# Altium schematic symbol library WE-CBA.SchLib: 88 symbols (part 2 of 2)
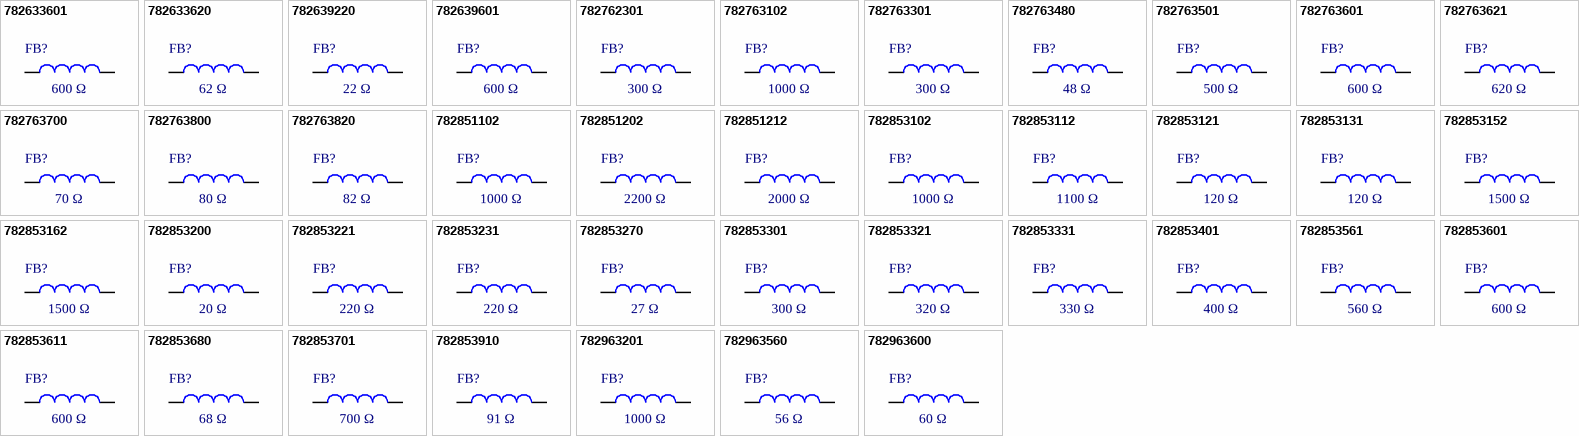
[diagram p3: symbols 782633601 to 782963600]

## 782853102
designator FB?, comment 1000 Ω
WE-CBA SMT EMI Suppression Ferrite Bead, size 0805, 1000 Ω, 1 A; Manufacturer Part Number: 782853102; Manufacturer: Wurth Elektronik; Case/Size Code: 0805; DC Resistance: 300 mΩ; Rated Current: 1 A; Type: High Current; Category: Ferrites for PCB Assembly; Match Code: WE-CBA; ComponentLink1Description: Website Link; ComponentLink1URL: https://www.we-online.com/redexpert/article/782853102?ad; ComponentLink2Description: Datasheet Link; ComponentLink2URL: https://www.we-online.com/redexpert/spec/782853102?ad; Mount: Surface Mount; Min Operating Temperature: -55 °C; Max Operating Temperature: 125 °C; Packaging: Tape and Reel; Length: 2 mm; Width: 1.2 mm; Height: 0.9 mm; Impedance @100MHz: 1000 Ω; Impedance Max: 1000 Ω
footprint WE-CBA_0805_L2W1.2H0.9_HC
simulation model 0805_782853102_1000ohm
pins: 1, 2

## 782853112
designator FB?, comment 1100 Ω
WE-CBA SMT EMI Suppression Ferrite Bead, size 0805, 1100 Ω, 800 mA; Manufacturer Part Number: 782853112; Manufacturer: Wurth Elektronik; Case/Size Code: 0805; DC Resistance: 300 mΩ; Impedance Max: 1400 Ω; Rated Current: 800 mA; Type: High Current; Category: Ferrites for PCB Assembly; Match Code: WE-CBA; ComponentLink1Description: Website Link; ComponentLink1URL: https://www.we-online.com/redexpert/article/782853112?ad; ComponentLink2Description: Datasheet Link; ComponentLink2URL: https://www.we-online.com/redexpert/spec/782853112?ad; Mount: Surface Mount; Min Operating Temperature: -55 °C; Max Operating Temperature: 125 °C; Packaging: Tape and Reel; Length: 2 mm; Width: 1.2 mm; Height: 0.9 mm; Impedance @100MHz: 1100 Ω
footprint WE-CBA_0805_L2W1.2H0.9_HC
simulation model 0805_782853112_1100ohm
pins: 1, 2

## 782853121
designator FB?, comment 120 Ω
WE-CBA SMT EMI Suppression Ferrite Bead, size 0805, 120 Ω, 2.5 A; Manufacturer Part Number: 782853121; Manufacturer: Wurth Elektronik; Case/Size Code: 0805; DC Resistance: 35 mΩ; Impedance Max: 180 Ω; Rated Current: 2.5 A; Type: High Current; Category: Ferrites for PCB Assembly; Match Code: WE-CBA; ComponentLink1Description: Website Link; ComponentLink1URL: https://www.we-online.com/redexpert/article/782853121?ad; ComponentLink2Description: Datasheet Link; ComponentLink2URL: https://www.we-online.com/redexpert/spec/782853121?ad; Mount: Surface Mount; Min Operating Temperature: -55 °C; Max Operating Temperature: 125 °C; Packaging: Tape and Reel; Length: 2 mm; Width: 1.2 mm; Height: 0.9 mm; Impedance @100MHz: 120 Ω
footprint WE-CBA_0805_L2W1.2H0.9_HC
simulation model 0805_782853121_120ohm
pins: 1, 2

## 782853131
designator FB?, comment 120 Ω
WE-CBA SMT EMI Suppression Ferrite Bead, size 0805, 120 Ω, 3 A; Manufacturer Part Number: 782853131; Manufacturer: Wurth Elektronik; Case/Size Code: 0805; DC Resistance: 30 mΩ; Impedance Max: 180 Ω; Rated Current: 3 A; Type: High Current; Category: Ferrites for PCB Assembly; Match Code: WE-CBA; ComponentLink1Description: Website Link; ComponentLink1URL: https://www.we-online.com/redexpert/article/782853131?ad; ComponentLink2Description: Datasheet Link; ComponentLink2URL: https://www.we-online.com/redexpert/spec/782853131?ad; Mount: Surface Mount; Min Operating Temperature: -55 °C; Max Operating Temperature: 125 °C; Packaging: Tape and Reel; Length: 2 mm; Width: 1.2 mm; Height: 0.9 mm; Impedance @100MHz: 120 Ω
footprint WE-CBA_0805_L2W1.2H0.9_HC
simulation model 0805_782853131_120ohm
pins: 1, 2

## 782853152
designator FB?, comment 1500 Ω
WE-CBA SMT EMI Suppression Ferrite Bead, size 0805, 1500 Ω, 700 mA; Manufacturer Part Number: 782853152; Manufacturer: Wurth Elektronik; Case/Size Code: 0805; DC Resistance: 350 mΩ; Impedance Max: 1800 Ω; Rated Current: 700 mA; Type: High Current; Category: Ferrites for PCB Assembly; Match Code: WE-CBA; ComponentLink1Description: Website Link; ComponentLink1URL: https://www.we-online.com/redexpert/article/782853152?ad; ComponentLink2Description: Datasheet Link; ComponentLink2URL: https://www.we-online.com/redexpert/spec/782853152?ad; Mount: Surface Mount; Min Operating Temperature: -55 °C; Max Operating Temperature: 125 °C; Packaging: Tape and Reel; Length: 2 mm; Width: 1.2 mm; Height: 0.9 mm; Impedance @100MHz: 1500 Ω
footprint WE-CBA_0805_L2W1.2H0.9_HC
simulation model 0805_782853152_1500ohm
pins: 1, 2

## 782853162
designator FB?, comment 1500 Ω
WE-CBA SMT EMI Suppression Ferrite Bead, size 0805, 1500 Ω, 1 A; Manufacturer Part Number: 782853162; Manufacturer: Wurth Elektronik; Case/Size Code: 0805; DC Resistance: 300 mΩ; Impedance Max: 1800 Ω; Rated Current: 1 A; Type: High Current; Category: Ferrites for PCB Assembly; Match Code: WE-CBA; ComponentLink1Description: Website Link; ComponentLink1URL: https://www.we-online.com/redexpert/article/782853162?ad; ComponentLink2Description: Datasheet Link; ComponentLink2URL: https://www.we-online.com/redexpert/spec/782853162?ad; Mount: Surface Mount; Min Operating Temperature: -55 °C; Max Operating Temperature: 125 °C; Packaging: Tape and Reel; Length: 2 mm; Width: 1.2 mm; Height: 0.9 mm; Impedance @100MHz: 1500 Ω
footprint WE-CBA_0805_L2W1.2H0.9_HC
simulation model 0805_782853162_1500ohm
pins: 1, 2

## 782853200
designator FB?, comment 20 Ω
WE-CBA SMT EMI Suppression Ferrite Bead, size 0805, 20 Ω, 5 A; Manufacturer Part Number: 782853200; Manufacturer: Wurth Elektronik; Case/Size Code: 0805; DC Resistance: 8 mΩ; Impedance Max: 35 Ω; Rated Current: 5 A; Type: High Current; Category: Ferrites for PCB Assembly; Match Code: WE-CBA; ComponentLink1Description: Website Link; ComponentLink1URL: https://www.we-online.com/redexpert/article/782853200?ad; ComponentLink2Description: Datasheet Link; ComponentLink2URL: https://www.we-online.com/redexpert/spec/782853200?ad; Mount: Surface Mount; Min Operating Temperature: -55 °C; Max Operating Temperature: 125 °C; Packaging: Tape and Reel; Length: 2 mm; Width: 1.2 mm; Height: 0.9 mm; Impedance @100MHz: 20 Ω
footprint WE-CBA_0805_L2W1.2H0.9_HC
simulation model 0805_782853200_20ohm
pins: 1, 2

## 782853221
designator FB?, comment 220 Ω
WE-CBA SMT EMI Suppression Ferrite Bead, size 0805, 220 Ω, 2 A; Manufacturer Part Number: 782853221; Manufacturer: Wurth Elektronik; Case/Size Code: 0805; DC Resistance: 50 mΩ; Impedance Max: 290 Ω; Rated Current: 2 A; Type: High Current; Category: Ferrites for PCB Assembly; Match Code: WE-CBA; ComponentLink1Description: Website Link; ComponentLink1URL: https://www.we-online.com/redexpert/article/782853221?ad; ComponentLink2Description: Datasheet Link; ComponentLink2URL: https://www.we-online.com/redexpert/spec/782853221?ad; Mount: Surface Mount; Min Operating Temperature: -55 °C; Max Operating Temperature: 125 °C; Packaging: Tape and Reel; Length: 2 mm; Width: 1.2 mm; Height: 0.9 mm; Impedance @100MHz: 220 Ω
footprint WE-CBA_0805_L2W1.2H0.9_HC
simulation model 0805_782853221_220ohm
pins: 1, 2

## 782853231
designator FB?, comment 220 Ω
WE-CBA SMT EMI Suppression Ferrite Bead, size 0805, 220 Ω, 3 A; Manufacturer Part Number: 782853231; Manufacturer: Wurth Elektronik; Case/Size Code: 0805; DC Resistance: 50 mΩ; Impedance Max: 330 Ω; Rated Current: 3 A; Type: High Current; Category: Ferrites for PCB Assembly; Match Code: WE-CBA; ComponentLink1Description: Website Link; ComponentLink1URL: https://www.we-online.com/redexpert/article/782853231?ad; ComponentLink2Description: Datasheet Link; ComponentLink2URL: https://www.we-online.com/redexpert/spec/782853231?ad; Mount: Surface Mount; Min Operating Temperature: -55 °C; Max Operating Temperature: 125 °C; Packaging: Tape and Reel; Length: 2 mm; Width: 1.2 mm; Height: 0.9 mm; Impedance @100MHz: 220 Ω
footprint WE-CBA_0805_L2W1.2H0.9_HC
simulation model 0805_782853231_220ohm
pins: 1, 2

## 782853270
designator FB?, comment 27 Ω
WE-CBA SMT EMI Suppression Ferrite Bead, size 0805, 27 Ω, 4 A; Manufacturer Part Number: 782853270; Manufacturer: Wurth Elektronik; Case/Size Code: 0805; DC Resistance: 15 mΩ; Impedance Max: 45 Ω; Rated Current: 4 A; Type: High Current; Category: Ferrites for PCB Assembly; Match Code: WE-CBA; ComponentLink1Description: Website Link; ComponentLink1URL: https://www.we-online.com/redexpert/article/782853270?ad; ComponentLink2Description: Datasheet Link; ComponentLink2URL: https://www.we-online.com/redexpert/spec/782853270?ad; Mount: Surface Mount; Min Operating Temperature: -55 °C; Max Operating Temperature: 125 °C; Packaging: Tape and Reel; Length: 2 mm; Width: 1.2 mm; Height: 0.9 mm; Impedance @100MHz: 27 Ω
footprint WE-CBA_0805_L2W1.2H0.9_HC
simulation model 0805_782853270_27ohm
pins: 1, 2

## 782853301
designator FB?, comment 300 Ω
WE-CBA SMT EMI Suppression Ferrite Bead, size 0805, 300 Ω, 3 A; Manufacturer Part Number: 782853301; Manufacturer: Wurth Elektronik; Case/Size Code: 0805; DC Resistance: 50 mΩ; Impedance Max: 350 Ω; Rated Current: 3 A; Type: High Current; Category: Ferrites for PCB Assembly; Match Code: WE-CBA; ComponentLink1Description: Website Link; ComponentLink1URL: https://www.we-online.com/redexpert/article/782853301?ad; ComponentLink2Description: Datasheet Link; ComponentLink2URL: https://www.we-online.com/redexpert/spec/782853301?ad; Mount: Surface Mount; Min Operating Temperature: -55 °C; Max Operating Temperature: 125 °C; Packaging: Tape and Reel; Length: 2 mm; Width: 1.2 mm; Height: 0.9 mm; Impedance @100MHz: 300 Ω
footprint WE-CBA_0805_L2W1.2H0.9_HC
simulation model 0805_782853301_300ohm
pins: 1, 2

## 782853321
designator FB?, comment 320 Ω
WE-CBA SMT EMI Suppression Ferrite Bead, size 0805, 320 Ω, 2 A; Manufacturer Part Number: 782853321; Manufacturer: Wurth Elektronik; Case/Size Code: 0805; DC Resistance: 50 mΩ; Impedance Max: 370 Ω; Rated Current: 2 A; Type: High Current; Category: Ferrites for PCB Assembly; Match Code: WE-CBA; ComponentLink1Description: Website Link; ComponentLink1URL: https://www.we-online.com/redexpert/article/782853321?ad; ComponentLink2Description: Datasheet Link; ComponentLink2URL: https://www.we-online.com/redexpert/spec/782853321?ad; Mount: Surface Mount; Min Operating Temperature: -55 °C; Max Operating Temperature: 125 °C; Packaging: Tape and Reel; Length: 2 mm; Width: 1.2 mm; Height: 0.9 mm; Impedance @100MHz: 320 Ω
footprint WE-CBA_0805_L2W1.2H0.9_HC
simulation model 0805_782853321_320ohm
pins: 1, 2

## 782853331
designator FB?, comment 330 Ω
WE-CBA SMT EMI Suppression Ferrite Bead, size 0805, 330 Ω, 3 A; Manufacturer Part Number: 782853331; Manufacturer: Wurth Elektronik; Case/Size Code: 0805; DC Resistance: 50 mΩ; Impedance Max: 375 Ω; Rated Current: 3 A; Type: High Current; Category: Ferrites for PCB Assembly; Match Code: WE-CBA; ComponentLink1Description: Website Link; ComponentLink1URL: https://www.we-online.com/redexpert/article/782853331?ad; ComponentLink2Description: Datasheet Link; ComponentLink2URL: https://www.we-online.com/redexpert/spec/782853331?ad; Mount: Surface Mount; Min Operating Temperature: -55 °C; Max Operating Temperature: 125 °C; Packaging: Tape and Reel; Length: 2 mm; Width: 1.2 mm; Height: 0.9 mm; Impedance @100MHz: 330 Ω
footprint WE-CBA_0805_L2W1.2H0.9_HC
simulation model 0805_782853331_330ohm
pins: 1, 2

## 782853401
designator FB?, comment 400 Ω
WE-CBA SMT EMI Suppression Ferrite Bead, size 0805, 400 Ω, 300 mA; Manufacturer Part Number: 782853401; Manufacturer: Wurth Elektronik; Case/Size Code: 0805; DC Resistance: 300 mΩ; Impedance Max: 500 Ω; Rated Current: 300 mA; Type: Wide Band; Category: Ferrites for PCB Assembly; Match Code: WE-CBA; ComponentLink1Description: Website Link; ComponentLink1URL: https://www.we-online.com/redexpert/article/782853401?ad; ComponentLink2Description: Datasheet Link; ComponentLink2URL: https://www.we-online.com/redexpert/spec/782853401?ad; Mount: Surface Mount; Min Operating Temperature: -55 °C; Max Operating Temperature: 125 °C; Packaging: Tape and Reel; Length: 2 mm; Width: 1.2 mm; Height: 0.9 mm; Impedance @100MHz: 400 Ω
footprint WE-CBA_0805_L2W1.2H0.9_HF_HS_WB
simulation model 0805_782853401_400ohm
pins: 1, 2

## 782853561
designator FB?, comment 560 Ω
WE-CBA SMT EMI Suppression Ferrite Bead, size 0805, 560 Ω, 1.5 A; Manufacturer Part Number: 782853561; Manufacturer: Wurth Elektronik; Case/Size Code: 0805; DC Resistance: 100 mΩ; Impedance Max: 600 Ω; Rated Current: 1.5 A; Type: High Current; Category: Ferrites for PCB Assembly; Match Code: WE-CBA; ComponentLink1Description: Website Link; ComponentLink1URL: https://www.we-online.com/redexpert/article/782853561?ad; ComponentLink2Description: Datasheet Link; ComponentLink2URL: https://www.we-online.com/redexpert/spec/782853561?ad; Mount: Surface Mount; Min Operating Temperature: -55 °C; Max Operating Temperature: 125 °C; Packaging: Tape and Reel; Length: 2 mm; Width: 1.2 mm; Height: 0.9 mm; Impedance @100MHz: 560 Ω
footprint WE-CBA_0805_L2W1.2H0.9_HC
simulation model 0805_782853561_560ohm
pins: 1, 2

## 782853601
designator FB?, comment 600 Ω
WE-CBA SMT EMI Suppression Ferrite Bead, size 0805, 600 Ω, 500 mA; Manufacturer Part Number: 782853601; Manufacturer: Wurth Elektronik; Case/Size Code: 0805; DC Resistance: 300 mΩ; Impedance Max: 700 Ω; Rated Current: 500 mA; Type: Wide Band; Category: Ferrites for PCB Assembly; Match Code: WE-CBA; ComponentLink1Description: Website Link; ComponentLink1URL: https://www.we-online.com/redexpert/article/782853601?ad; ComponentLink2Description: Datasheet Link; ComponentLink2URL: https://www.we-online.com/redexpert/spec/782853601?ad; Mount: Surface Mount; Min Operating Temperature: -55 °C; Max Operating Temperature: 125 °C; Packaging: Tape and Reel; Length: 2 mm; Width: 1.2 mm; Height: 0.9 mm; Impedance @100MHz: 600 Ω
footprint WE-CBA_0805_L2W1.2H0.9_HF_HS_WB
simulation model 0805_782853601_600ohm
pins: 1, 2

## 782853611
designator FB?, comment 600 Ω
WE-CBA SMT EMI Suppression Ferrite Bead, size 0805, 600 Ω, 2 A; Manufacturer Part Number: 782853611; Manufacturer: Wurth Elektronik; Case/Size Code: 0805; DC Resistance: 110 mΩ; Impedance Max: 700 Ω; Rated Current: 2 A; Type: High Current; Category: Ferrites for PCB Assembly; Match Code: WE-CBA; ComponentLink1Description: Website Link; ComponentLink1URL: https://www.we-online.com/redexpert/article/782853611?ad; ComponentLink2Description: Datasheet Link; ComponentLink2URL: https://www.we-online.com/redexpert/spec/782853611?ad; Mount: Surface Mount; Min Operating Temperature: -55 °C; Max Operating Temperature: 125 °C; Packaging: Tape and Reel; Length: 2 mm; Width: 1.2 mm; Height: 0.9 mm; Impedance @100MHz: 600 Ω
footprint WE-CBA_0805_L2W1.2H0.9_HC
simulation model 0805_782853611_600ohm
pins: 1, 2

## 782853680
designator FB?, comment 68 Ω
WE-CBA SMT EMI Suppression Ferrite Bead, size 0805, 68 Ω, 3 A; Manufacturer Part Number: 782853680; Manufacturer: Wurth Elektronik; Case/Size Code: 0805; DC Resistance: 25 mΩ; Impedance Max: 110 Ω; Rated Current: 3 A; Type: High Current; Category: Ferrites for PCB Assembly; Match Code: WE-CBA; ComponentLink1Description: Website Link; ComponentLink1URL: https://www.we-online.com/redexpert/article/782853680?ad; ComponentLink2Description: Datasheet Link; ComponentLink2URL: https://www.we-online.com/redexpert/spec/782853680?ad; Mount: Surface Mount; Min Operating Temperature: -55 °C; Max Operating Temperature: 125 °C; Packaging: Tape and Reel; Length: 2 mm; Width: 1.2 mm; Height: 0.9 mm; Impedance @100MHz: 68 Ω
footprint WE-CBA_0805_L2W1.2H0.9_HC
simulation model 0805_782853680_68ohm
pins: 1, 2

## 782853701
designator FB?, comment 700 Ω
WE-CBA SMT EMI Suppression Ferrite Bead, size 0805, 700 Ω, 1.5 A; Manufacturer Part Number: 782853701; Manufacturer: Wurth Elektronik; Case/Size Code: 0805; DC Resistance: 100 mΩ; Impedance Max: 730 Ω; Rated Current: 1.5 A; Type: High Current; Category: Ferrites for PCB Assembly; Match Code: WE-CBA; ComponentLink1Description: Website Link; ComponentLink1URL: https://www.we-online.com/redexpert/article/782853701?ad; ComponentLink2Description: Datasheet Link; ComponentLink2URL: https://www.we-online.com/redexpert/spec/782853701?ad; Mount: Surface Mount; Min Operating Temperature: -55 °C; Max Operating Temperature: 125 °C; Packaging: Tape and Reel; Length: 2 mm; Width: 1.2 mm; Height: 0.9 mm; Impedance @100MHz: 700 Ω
footprint WE-CBA_0805_L2W1.2H0.9_HC
simulation model 0805_782853701_700ohm
pins: 1, 2

## 782853910
designator FB?, comment 91 Ω
WE-CBA SMT EMI Suppression Ferrite Bead, size 0805, 91 Ω, 2 A; Manufacturer Part Number: 782853910; Manufacturer: Wurth Elektronik; Case/Size Code: 0805; DC Resistance: 60 mΩ; Impedance Max: 105 Ω; Rated Current: 2 A; Type: High Current; Category: Ferrites for PCB Assembly; Match Code: WE-CBA; ComponentLink1Description: Website Link; ComponentLink1URL: https://www.we-online.com/redexpert/article/782853910?ad; ComponentLink2Description: Datasheet Link; ComponentLink2URL: https://www.we-online.com/redexpert/spec/782853910?ad; Mount: Surface Mount; Min Operating Temperature: -55 °C; Max Operating Temperature: 125 °C; Packaging: Tape and Reel; Length: 2 mm; Width: 1.2 mm; Height: 0.9 mm; Impedance @100MHz: 91 Ω
footprint WE-CBA_0805_L2W1.2H0.9_HC
simulation model 0805_782853910_91ohm
pins: 1, 2

## 782963201
designator FB?, comment 1000 Ω
WE-CBA SMT EMI Suppression Ferrite Bead, size 1806, 1000 Ω, 1.5 A; Manufacturer Part Number: 782963201; Manufacturer: Wurth Elektronik; Case/Size Code: 1806; DC Resistance: 90 mΩ; Impedance Max: 1020 Ω; Rated Current: 1.5 A; Type: High Current; Category: Ferrites for PCB Assembly; Match Code: WE-CBA; ComponentLink1Description: Website Link; ComponentLink1URL: https://www.we-online.com/redexpert/article/782963201?ad; ComponentLink2Description: Datasheet Link; ComponentLink2URL: https://www.we-online.com/redexpert/spec/782963201?ad; Mount: Surface Mount; Min Operating Temperature: -55 °C; Max Operating Temperature: 125 °C; Packaging: Tape and Reel; Length: 4.5 mm; Width: 1.6 mm; Height: 1.6 mm; Impedance @100MHz: 1000 Ω
footprint WE-CBA_1806_L4.5W1.6H1.6_HC
simulation model 1806_782963201_1000ohm
pins: 1, 2

## 782963560
designator FB?, comment 56 Ω
WE-CBA SMT EMI Suppression Ferrite Bead, size 1806, 56 Ω, 5 A; Manufacturer Part Number: 782963560; Manufacturer: Wurth Elektronik; Case/Size Code: 1806; DC Resistance: 8 mΩ; Impedance Max: 90 Ω; Rated Current: 5 A; Type: High Current; Category: Ferrites for PCB Assembly; Match Code: WE-CBA; ComponentLink1Description: Website Link; ComponentLink1URL: https://www.we-online.com/redexpert/article/782963560?ad; ComponentLink2Description: Datasheet Link; ComponentLink2URL: https://www.we-online.com/redexpert/spec/782963560?ad; Mount: Surface Mount; Min Operating Temperature: -55 °C; Max Operating Temperature: 125 °C; Packaging: Tape and Reel; Length: 4.5 mm; Width: 1.6 mm; Height: 1.6 mm; Impedance @100MHz: 56 Ω
footprint WE-CBA_1806_L4.5W1.6H1.6_HC
simulation model 1806_782963560_56ohm
pins: 1, 2

## 782963600
designator FB?, comment 60 Ω
WE-CBA SMT EMI Suppression Ferrite Bead, size 1806, 60 Ω, 6 A; Manufacturer Part Number: 782963600; Manufacturer: Wurth Elektronik; Case/Size Code: 1806; DC Resistance: 10 mΩ; Impedance Max: 120 Ω; Rated Current: 6 A; Type: High Current; Category: Ferrites for PCB Assembly; Match Code: WE-CBA; ComponentLink1Description: Website Link; ComponentLink1URL: https://www.we-online.com/redexpert/article/782963600?ad; ComponentLink2Description: Datasheet Link; ComponentLink2URL: https://www.we-online.com/redexpert/spec/782963600?ad; Mount: Surface Mount; Min Operating Temperature: -55 °C; Max Operating Temperature: 125 °C; Packaging: Tape and Reel; Length: 4.5 mm; Width: 1.6 mm; Height: 1.6 mm; Impedance @100MHz: 60 Ω
footprint WE-CBA_1806_L4.5W1.6H1.6_HC
simulation model 1806_782963600_60ohm
pins: 1, 2

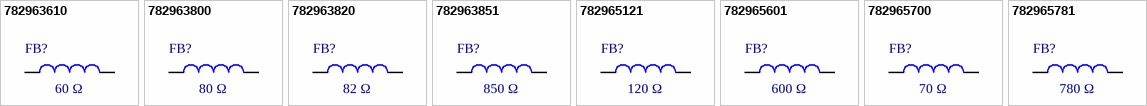
[diagram p2: symbols 782963610 to 782965781]

## 782963610
designator FB?, comment 60 Ω
WE-CBA SMT EMI Suppression Ferrite Bead, size 1806, 60 Ω, 6 A; Manufacturer Part Number: 782963610; Manufacturer: Wurth Elektronik; Case/Size Code: 1806; DC Resistance: 8 mΩ; Impedance Max: 120 Ω; Rated Current: 6 A; Type: High Current; Category: Ferrites for PCB Assembly; Match Code: WE-CBA; ComponentLink1Description: Website Link; ComponentLink1URL: https://www.we-online.com/redexpert/article/782963610?ad; ComponentLink2Description: Datasheet Link; ComponentLink2URL: https://www.we-online.com/redexpert/spec/782963610?ad; Mount: Surface Mount; Min Operating Temperature: -55 °C; Max Operating Temperature: 125 °C; Packaging: Tape and Reel; Length: 4.5 mm; Width: 1.6 mm; Height: 1.6 mm; Impedance @100MHz: 60 Ω
footprint WE-CBA_1806_L4.5W1.6H1.6_HC
simulation model 1806_782963610_60ohm
pins: 1, 2

## 782963800
designator FB?, comment 80 Ω
WE-CBA SMT EMI Suppression Ferrite Bead, size 1806, 80 Ω, 3 A; Manufacturer Part Number: 782963800; Manufacturer: Wurth Elektronik; Case/Size Code: 1806; DC Resistance: 40 mΩ; Impedance Max: 140 Ω; Rated Current: 3 A; Type: High Current; Category: Ferrites for PCB Assembly; Match Code: WE-CBA; ComponentLink1Description: Website Link; ComponentLink1URL: https://www.we-online.com/redexpert/article/782963800?ad; ComponentLink2Description: Datasheet Link; ComponentLink2URL: https://www.we-online.com/redexpert/spec/782963800?ad; Mount: Surface Mount; Min Operating Temperature: -55 °C; Max Operating Temperature: 125 °C; Packaging: Tape and Reel; Length: 4.5 mm; Width: 1.6 mm; Height: 1.6 mm; Impedance @100MHz: 80 Ω
footprint WE-CBA_1806_L4.5W1.6H1.6_HC
simulation model 1806_782963800_80ohm
pins: 1, 2

## 782963820
designator FB?, comment 82 Ω
WE-CBA SMT EMI Suppression Ferrite Bead, size 1806, 82 Ω, 3.5 A; Manufacturer Part Number: 782963820; Manufacturer: Wurth Elektronik; Case/Size Code: 1806; DC Resistance: 20 mΩ; Impedance Max: 110 Ω; Rated Current: 3.5 A; Type: High Current; Category: Ferrites for PCB Assembly; Match Code: WE-CBA; ComponentLink1Description: Website Link; ComponentLink1URL: https://www.we-online.com/redexpert/article/782963820?ad; ComponentLink2Description: Datasheet Link; ComponentLink2URL: https://www.we-online.com/redexpert/spec/782963820?ad; Mount: Surface Mount; Min Operating Temperature: -55 °C; Max Operating Temperature: 125 °C; Packaging: Tape and Reel; Length: 4.5 mm; Width: 1.6 mm; Height: 1.6 mm; Impedance @100MHz: 82 Ω
footprint WE-CBA_1806_L4.5W1.6H1.6_HC
simulation model 1806_782963820_82ohm
pins: 1, 2

## 782963851
designator FB?, comment 850 Ω
WE-CBA SMT EMI Suppression Ferrite Bead, size 1806, 850 Ω, 1.5 A; Manufacturer Part Number: 782963851; Manufacturer: Wurth Elektronik; Case/Size Code: 1806; DC Resistance: 100 mΩ; Impedance Max: 1250 Ω; Rated Current: 1.5 A; Type: High Current; Category: Ferrites for PCB Assembly; Match Code: WE-CBA; ComponentLink1Description: Website Link; ComponentLink1URL: https://www.we-online.com/redexpert/article/782963851?ad; ComponentLink2Description: Datasheet Link; ComponentLink2URL: https://www.we-online.com/redexpert/spec/782963851?ad; Mount: Surface Mount; Min Operating Temperature: -55 °C; Max Operating Temperature: 125 °C; Packaging: Tape and Reel; Length: 4.5 mm; Width: 1.6 mm; Height: 1.6 mm; Impedance @100MHz: 850 Ω
footprint WE-CBA_1806_L4.5W1.6H1.6_HC
simulation model 1806_782963851_850ohm
pins: 1, 2

## 782965121
designator FB?, comment 120 Ω
WE-CBA SMT EMI Suppression Ferrite Bead, size 1812, 120 Ω, 3 A; Manufacturer Part Number: 782965121; Manufacturer: Wurth Elektronik; Case/Size Code: 1812; DC Resistance: 40 mΩ; Impedance Max: 190 Ω; Rated Current: 3 A; Type: High Current; Category: Ferrites for PCB Assembly; Match Code: WE-CBA; ComponentLink1Description: Website Link; ComponentLink1URL: https://www.we-online.com/redexpert/article/782965121?ad; ComponentLink2Description: Datasheet Link; ComponentLink2URL: https://www.we-online.com/redexpert/spec/782965121?ad; Mount: Surface Mount; Min Operating Temperature: -55 °C; Max Operating Temperature: 125 °C; Packaging: Tape and Reel; Length: 4.5 mm; Width: 3.2 mm; Height: 1.5 mm; Impedance @100MHz: 120 Ω
footprint WE-CBA_1812_L4.5W3.2H1.5_HC
simulation model 1812_782965121_120ohm
pins: 1, 2

## 782965601
designator FB?, comment 600 Ω
WE-CBA SMT EMI Suppression Ferrite Bead, size 1812, 600 Ω, 3 A; Manufacturer Part Number: 782965601; Manufacturer: Wurth Elektronik; Case/Size Code: 1812; DC Resistance: 40 mΩ; Impedance Max: 900 Ω; Rated Current: 3 A; Type: High Current; Category: Ferrites for PCB Assembly; Match Code: WE-CBA; ComponentLink1Description: Website Link; ComponentLink1URL: https://www.we-online.com/redexpert/article/782965601?ad; ComponentLink2Description: Datasheet Link; ComponentLink2URL: https://www.we-online.com/redexpert/spec/782965601?ad; Mount: Surface Mount; Min Operating Temperature: -55 °C; Max Operating Temperature: 125 °C; Packaging: Tape and Reel; Length: 4.5 mm; Width: 3.2 mm; Height: 1.5 mm; Impedance @100MHz: 600 Ω
footprint WE-CBA_1812_L4.5W3.2H1.5_HC
simulation model 1812_782965601_600ohm
pins: 1, 2

## 782965700
designator FB?, comment 70 Ω
WE-CBA SMT EMI Suppression Ferrite Bead, size 1812, 70 Ω, 6 A; Manufacturer Part Number: 782965700; Manufacturer: Wurth Elektronik; Case/Size Code: 1812; DC Resistance: 8 mΩ; Impedance Max: 120 Ω; Rated Current: 6 A; Type: High Current; Category: Ferrites for PCB Assembly; Match Code: WE-CBA; ComponentLink1Description: Website Link; ComponentLink1URL: https://www.we-online.com/redexpert/article/782965700?ad; ComponentLink2Description: Datasheet Link; ComponentLink2URL: https://www.we-online.com/redexpert/spec/782965700?ad; Mount: Surface Mount; Min Operating Temperature: -55 °C; Max Operating Temperature: 125 °C; Packaging: Tape and Reel; Length: 4.5 mm; Width: 3.2 mm; Height: 1.5 mm; Impedance @100MHz: 70 Ω
footprint WE-CBA_1812_L4.5W3.2H1.5_HC
simulation model 1812_782965700_70ohm
pins: 1, 2

## 782965781
designator FB?, comment 780 Ω
WE-CBA SMT EMI Suppression Ferrite Bead, size 1812, 780 Ω, 3 A; Manufacturer Part Number: 782965781; Manufacturer: Wurth Elektronik; Case/Size Code: 1812; DC Resistance: 40 mΩ; Impedance Max: 1300 Ω; Rated Current: 3 A; Type: High Current; Category: Ferrites for PCB Assembly; Match Code: WE-CBA; ComponentLink1Description: Website Link; ComponentLink1URL: https://www.we-online.com/redexpert/article/782965781?ad; ComponentLink2Description: Datasheet Link; ComponentLink2URL: https://www.we-online.com/redexpert/spec/782965781?ad; Mount: Surface Mount; Min Operating Temperature: -55 °C; Max Operating Temperature: 125 °C; Packaging: Tape and Reel; Length: 4.5 mm; Width: 3.2 mm; Height: 1.5 mm; Impedance @100MHz: 780 Ω
footprint WE-CBA_1812_L4.5W3.2H1.5_HC
simulation model 1812_782965781_780ohm
pins: 1, 2